# Altium schematic symbol library 004-H-01.SchLib: 27 symbols
Pins are listed as number, name and electrical type; pins without a type are passive.

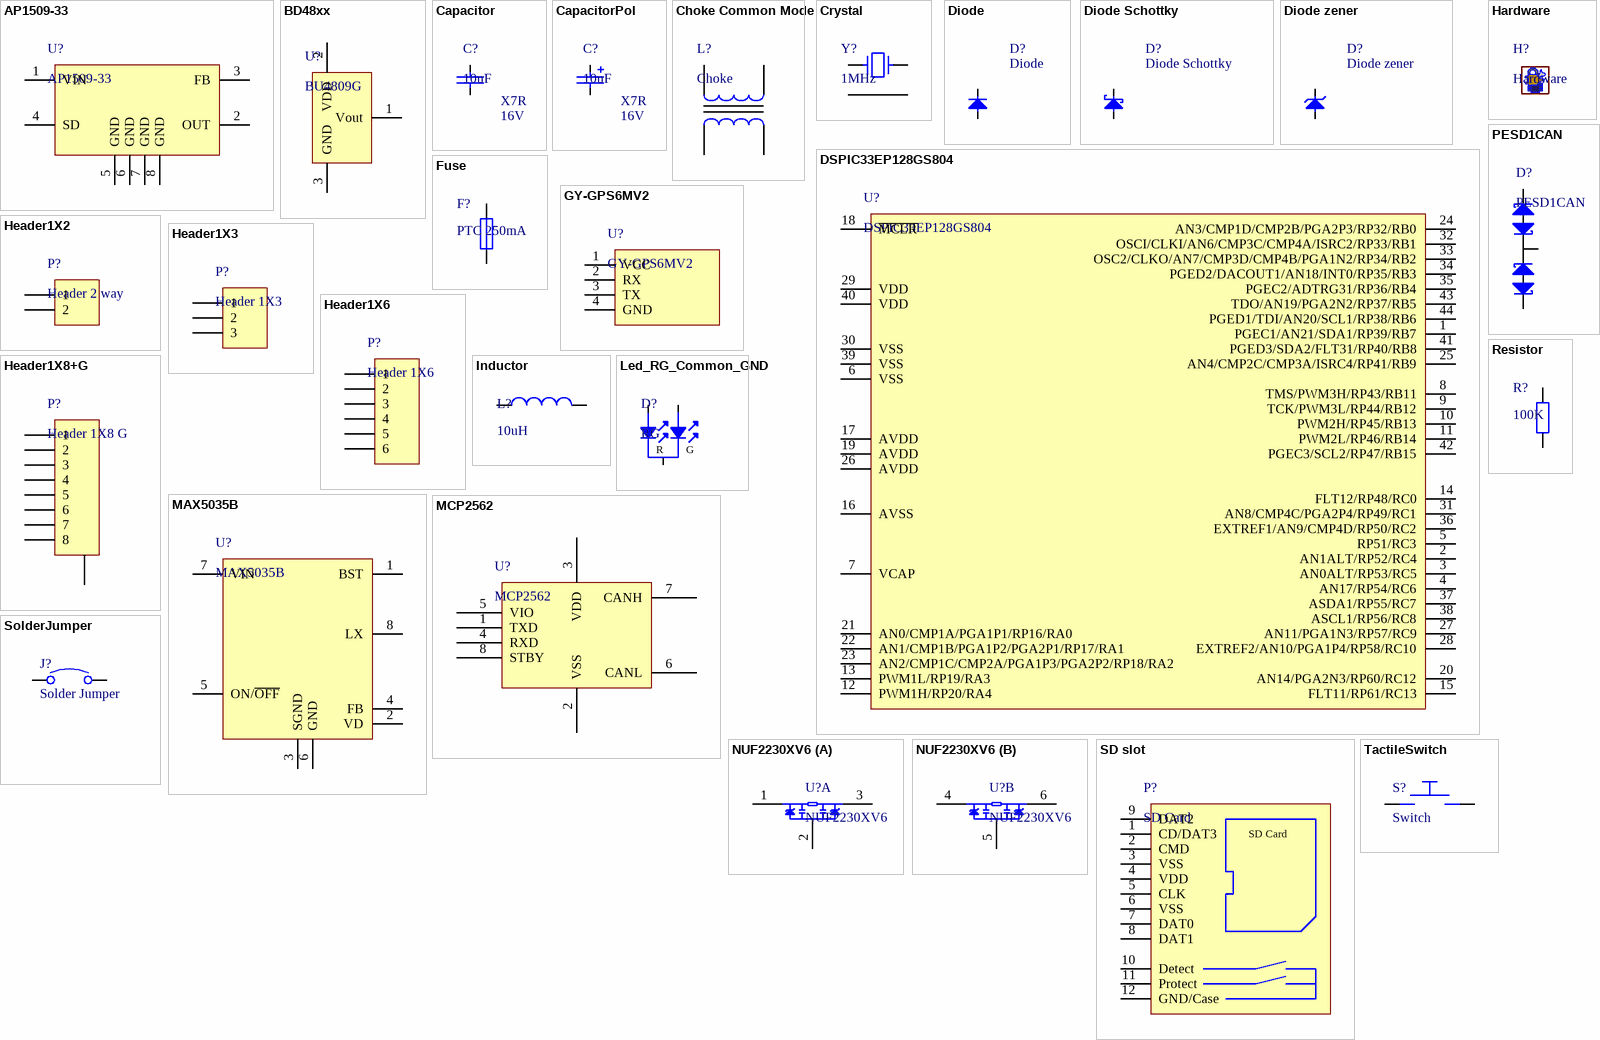
[diagram p0: symbols AP1509-33 to TactileSwitch]

## AP1509-33
designator U?
150KHz, 2A PWM BUCK DC/DC CONVERTER; Manufacturer: Diodes Inc; Manufacturer Part No: AP1509-33SG-13; Farnell Ordercode: 1825322; Price: 0.75
footprint SOIC-8N (SOIC, 8-Leads, Body 4.9x3.9mm (max), Pitch 1.27mm, IPC Medium Density)
pins: 1 VIN, 2 OUT, 3 FB, 4 SD, 5 GND, 6 GND, 7 GND, 8 GND

## BD48xx
designator U?, comment BU4809G
Voltage Detector; Manufacturer: ROHM; Manufacturer Part No: BU4809G-TR; Farnell Ordercode: 2342983; Price: 0.12
footprint SOT95P280X125-5N (SOT23, 5-Leads, Body 2.90x2.80mm, Pitch 0.95mm, IPC Medium Density)
pins: 1 Vout, 2 VDD, 3 GND

## Capacitor
designator C?, comment 10uF  Dielectric: X7R  VoltageRating: 16V
Capacitor; Manufacturer: -; Manufacturer Part No: -; Farnell Ordercode: -; Price: 0.00
footprint CAP0805 (Chip Capacitor, 2-Leads, Body 2.0x1.3mm, IPC Medium Density)
footprint CAP1210 (Chip Capacitor, 2-Leads, Body 3.2x2.5mm, IPC Medium Density)
footprint CAP0603 (Chip Capacitor 0603)
pins: 1, 2

## CapacitorPol
designator C?, comment 10uF  Dielectric: X7R  VoltageRating: 16V
Capacitor Pol; Manufacturer: -; Manufacturer Part No: -; Farnell Ordercode: -; Price: 0.00
footprint CAPP8383X62N (Capacitor SMD, 2-Leads, Body 8.3x8.3mm, IPC Medium Density)
footprint CAPAE189170X170M (Aluminum Electrolytic Capacitor, Body 17,00x17,00x17,00mm, IPC Low Density)
footprint CAPAE119103X105M (Aluminum Electrolytic Capacitor, Body 10,30x10,30x10,50mm, IPC Low Density)
footprint CAPPOL_leaded_D12_5L20P5
pins: 1, 2

## Choke Common Mode
designator L?, comment Choke
Choke common mode; Manufacturer: *; Manufacturer Part No: *; Farnell Ordercode: *; Price: 0.00
footprint IND200P450X300-4N (IND, 4-Leads, Body 3.4x4.7mm (max), Pitch 2.00mm, IPC Medium Density)
pins: 1, 2, 3, 4

## Crystal
designator Y?, comment 1MHz
Crystal; Manufacturer: -; Manufacturer Part No: -; Farnell Ordercode: -; Price: 0.00
footprint CrystalSMD 5032 (DFN, 4-Leads, Body 3.20x5.00mm, Pitch 3.80mm, IPC Medium Density)
pins: 1, 2, 3, 4

## Diode
designator D?
Manufacturer: -; Manufacturer Part No: -; Farnell Ordercode: -; Price: 0.00
footprint DIODEDO-214AC (Molded Diode, 2-Leads, Body 4.4x2.7mm, IPC Medium Density)
pins: 1 K, 2 A

## Diode Schottky
designator D?
Manufacturer: -; Manufacturer Part No: -; Farnell Ordercode: -; Price: 0.00
footprint DIODEDO-214AC (Molded Diode, 2-Leads, Body 4.4x2.7mm, IPC Medium Density)
pins: 1 K, 2 A

## Diode zener
designator D?
Manufacturer: -; Manufacturer Part No: -; Farnell Ordercode: -; Price: 0.00
footprint DIODEDO-214AC (Molded Diode, 2-Leads, Body 4.4x2.7mm, IPC Medium Density)
footprint DIODESOD123 (SOD123, 2-Leads, Body 1.60x3.75mm, IPC Medium Density)
pins: 1 K, 2 A

## DSPIC33EP128GS804
designator U?
16-Bit Digital Signal Controllers fo  r Digital Power Applications with   Interconnected High-Speed PWM, ADC, PGA and Comparators; Manufacturer: Microchip; Manufacturer Part No: DSPIC33EP128GS804-I/PT; Farnell Ordercode: 2706170; Price: 4.44
footprint TQFP80P1200X1200X120-44N (TQFP, 44-Leads, Body 12.0x12.0mm (max), Pitch 0.80mm, IPC Medium Density)
pins: 1 PGEC1/AN21/SDA1/RP39/RB7, 2 AN1ALT/RP52/RC4, 3 AN0ALT/RP53/RC5, 4 AN17/RP54/RC6, 5 RP51/RC3, 6 VSS, 7 VCAP, 8 TMS/PWM3H/RP43/RB11, 9 TCK/PWM3L/RP44/RB12, 10 PWM2H/RP45/RB13, 11 PWM2L/RP46/RB14, 12 PWM1H/RP20/RA4, 13 PWM1L/RP19/RA3, 14 FLT12/RP48/RC0, 15 FLT11/RP61/RC13, 16 AVSS, 17 AVDD, 18 ~{MCLR}, 19 AVDD, 20 AN14/PGA2N3/RP60/RC12, 21 AN0/CMP1A/PGA1P1/RP16/RA0, 22 AN1/CMP1B/PGA1P2/PGA2P1/RP17/RA1, 23 AN2/CMP1C/CMP2A/PGA1P3/PGA2P2/RP18/RA2, 24 AN3/CMP1D/CMP2B/PGA2P3/RP32/RB0, 25 AN4/CMP2C/CMP3A/ISRC4/RP41/RB9, 26 AVDD, 27 AN11/PGA1N3/RP57/RC9, 28 EXTREF2/AN10/PGA1P4/RP58/RC10, 29 VDD, 30 VSS, 31 AN8/CMP4C/PGA2P4/RP49/RC1, 32 OSCI/CLKI/AN6/CMP3C/CMP4A/ISRC2/RP33/RB1, 33 OSC2/CLKO/AN7/CMP3D/CMP4B/PGA1N2/RP34/RB2, 34 PGED2/DACOUT1/AN18/INT0/RP35/RB3, 35 PGEC2/ADTRG31/RP36/RB4, 36 EXTREF1/AN9/CMP4D/RP50/RC2, 37 ASDA1/RP55/RC7, 38 ASCL1/RP56/RC8, 39 VSS, 40 VDD, 41 PGED3/SDA2/FLT31/RP40/RB8, 42 PGEC3/SCL2/RP47/RB15, 43 TDO/AN19/PGA2N2/RP37/RB5, 44 PGED1/TDI/AN20/SCL1/RP38/RB6

## Fuse
designator F?, comment PTC 250mA
Fuse; Manufacturer: -; Manufacturer Part No: -; Farnell Ordercode: -; Price: 0.00
footprint Fuse1210
pins: 1, 2

## GY-GPS6MV2
designator U?
GPS module; Manufacturer: -; Manufacturer Part No: -; Farnell Ordercode: -; Price: 5.00
footprint SOIC-8N (SOIC, 8-Leads, Body 4.9x3.9mm (max), Pitch 1.27mm, IPC Medium Density)
footprint GY-GPS6MV2 (GPS module)
pins: 1 VCC, 2 RX, 3 TX, 4 GND

## Hardware
designator H?
Generaric hardware; Manufacturer: -; Manufacturer Part No: -; Farnell Ordercode: -; Price: 0.00

## Header1X2
designator P?, comment Header 2 way
Manufacturer: IMO PRECISION CONTROLS; Manufacturer Part No: 21.95MH/2-E; Farnell Ordercode: 2517885; Price: 0.153
footprint 21.95MH/2-E (Terminal Block, Horizontal, Header, 5.08 mm, 2 Ways)
pins: 1, 2

## Header1X3
designator P?, comment Header 1X3
Connector 1X3; Manufacturer: -; Manufacturer Part No: -; Farnell Ordercode: -; Price: 0.00
footprint Header1X3P100 (Header 1X3, 100mil pitch)
pins: 1, 2, 3

## Header1X6
designator P?, comment Header 1X6
Connector 1X6; Manufacturer: -; Manufacturer Part No: -; Farnell Ordercode: -; Price: 0.00
footprint Header1X6P100 (Header 1X6, 100mil pitch)
pins: 1, 2, 3, 4, 5, 6

## Header1X8+G
designator P?, comment Header 1X8 G
Connector 1X8 with Ground; Manufacturer: -; Manufacturer Part No: -; Farnell Ordercode: -; Price: 0.00
footprint TECO-1-406541-5 (MODULAR, JACK, THT, R/A, RJ45, 8P8C)
pins: 1, 2, 3, 4, 5, 6, 7, 8, 9 G

## Inductor
designator L?, comment 10uH
Inductor; Manufacturer: -; Manufacturer Part No: -; Farnell Ordercode: -; Price: 0.00
footprint INDP183140X66N (Precision Wire Wound Inductor, 2-Leads, Body 18.3x14.0mm, IPC Medium Density)
footprint INDP3030X28N (Precision Wire Wound Inductor, 2-Leads, Body 3,00x3,00mm, IPC Medium Density)
footprint INDP122122X102N (Precision Wire Wound Inductor, 2-Leads, Body 12,15x12,15mm, IPC Medium Density)
pins: 1, 2

## Led_RG_Common_GND
designator D?, comment RG
Led RG; Manufacturer: KINGBRIGHT; Manufacturer Part No: KPTB-1612LVSURKCGKC; Farnell Ordercode: 2846591; Price: 0.00
footprint LED_RG_COMMON_GND
pins: 1 A_R, 2 K, 3 A_G
text: R; G

## MAX5035B
designator U?
5V 1A, 76V, High-Efficiency MAXPower Step-Down DC-DC Converter; Manufacturer: Maxim Integrated Products; Manufacturer Part No: MAX5035BUSA+T; Farnell Ordercode: 2799102; Price: 3.26
footprint SOIC-8N (SOIC, 8-Leads, Body 4.9x3.9mm (max), Pitch 1.27mm, IPC Medium Density)
pins: 1 BST, 2 VD, 3 SGND, 4 FB, 5 ON/~{OFF}, 6 GND, 7 VIN, 8 LX

## MCP2562
designator U?
CAN Bus, Transceiver, CAN, LIN, 1, 1, 4.5 V, 5.5 V, SOIC; Manufacturer: Microchip; Manufacturer Part No: MCP2562-E/SN; Farnell Ordercode: 2362839; price: 0.79
footprint SOIC-8N (SOIC, 8-Leads, Body 4.9x3.9mm (max), Pitch 1.27mm, IPC Medium Density)
pins: 1 TXD, 2 VSS, 3 VDD, 4 RXD, 5 VIO, 6 CANL, 7 CANH, 8 STBY

## NUF2230XV6
designator U?
2 Line EMI Filter with ESDProtection; Manufacturer: ON SEMICONDUCTOR; Manufacturer Part No: NUF2230XV6T1G; Farnell Ordercode: 2774598; Price: 0.22
footprint SOT50P160X60-6N (SOT23, 6-Leads, Body 1.60x1.60mm, Pitch 0.50mm, IPC Medium Density)
part A pins: 1, 2, 3
part B pins: 4, 5, 6

## PESD1CAN
designator D?
ESD Protection Device, TVS, 70 V, SOT-23, 3 Pins; Manufacturer: NXP; Manufacturer Part No: PESD1CAN; Farnell Ordercode: 1510703; Price: 0.13
footprint SOT23-3N (SOT23, 3-Leads, Body 3.1x3.0mm (max), Pitch 0.95mm, IPC Medium Density)
pins: 1, 2, 3

## Resistor
designator R?, comment 100K
Resistor; Tolerance: 1%; Manufacturer: -; Manufacturer Part No: -; Farnell Ordercode: -; Price: 0.00
footprint RES0805 (Chip Resistor, 2-Leads, Body 2.0x1.3mm, IPC Medium Density)
footprint RES0603 (Chip Resistor 0603)
pins: 1, 2

## SD slot
designator P?, comment SD Card
SD slot connector with card detect and protect; Manufacturer: JST; Manufacturer Part No: SDK-9BNS-K13-GS-TB; Farnell Ordercode: 2469853; Price: 1.46
footprint SDK-9BNS-K13-GS-TB (Memory Socket SD card)
pins: 1 CD/DAT3, 2 CMD, 3 VSS, 4 VDD, 5 CLK, 6 VSS, 7 DAT0, 8 DAT1, 9 DAT2, 10 Detect, 11 Protect, 12 GND/Case

## SolderJumper
designator J?, comment Solder Jumper
Solder jumper open; Manufacturer: -; Manufacturer Part No: -; Farnell Ordercode: -; Price: 0.00
footprint SolderJumer (Solder jumper open)
pins: 1, 2

## TactileSwitch
designator S?, comment Switch
Tactile Switch; Manufacturer: *; Manufacturer Part No: *; Farnell Ordercode: *; Price: 0.00
footprint FSMRA4JH (Tactile switch side actuated)
pins: 1, 2